# EAGLE library part EALED55X31G (library Magister-Libraries)
EA LED55X31-G: LCD Character Display Modules & Accessories Y/G LED Backlight For DOG-M Series
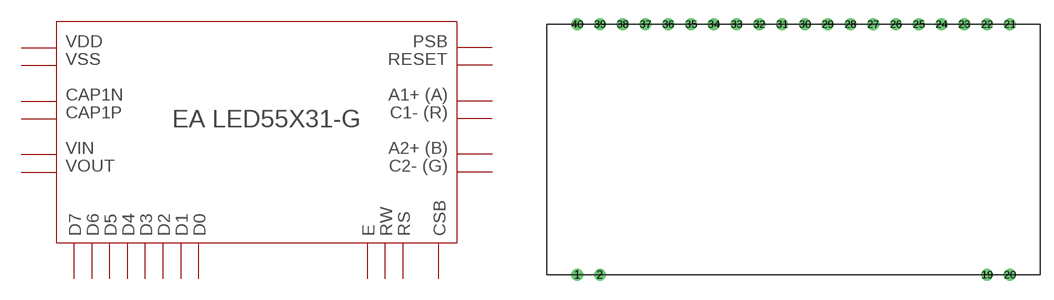
[diagram p4: symbol with the pads of EALED55X31G; footprint EALED55X31G]

Designator prefix -

## EALED55X31G (BACKLIGHT: LED Yellow/Green; CHAR_LINE: 16 x 2; DIMENSIONS: 55 mm x 31 mm x 3.6 mm; INTERFACE: 4 bit, 8 bit, SPI 4-Wire; V_SUPPLY: 3.3 V/5 V)  [EALED55X31G]
1  1
2  2
19  19
20  20
21  21
22  22
23  23
24  24
25  25
26  26
27  27
28  28
29  29
30  30
31  31
32  32
33  33
34  34
35  35
36  36
37  37
38  38
39  39
40  40

## Footprint EALED55X31G (pad centres in mm)
drill 0.8: 1 -24.57,-8.89; 2 -22.03,-8.89; 19 21.15,-8.89; 20 23.69,-8.89; 21 23.69,19.05; 22 21.15,19.05; 23 18.61,19.05; 24 16.07,19.05; 25 13.53,19.05; 26 10.99,19.05; 27 8.45,19.05; 28 5.91,19.05; 29 3.37,19.05; 30 0.83,19.05; 31 -1.71,19.05; 32 -4.25,19.05; 33 -6.79,19.05; 34 -9.33,19.05; 35 -11.87,19.05; 36 -14.41,19.05; 37 -16.95,19.05; 38 -19.49,19.05; 39 -22.03,19.05; 40 -24.57,19.05